# EAGLE library part M08_SMD (library custom-connectors)
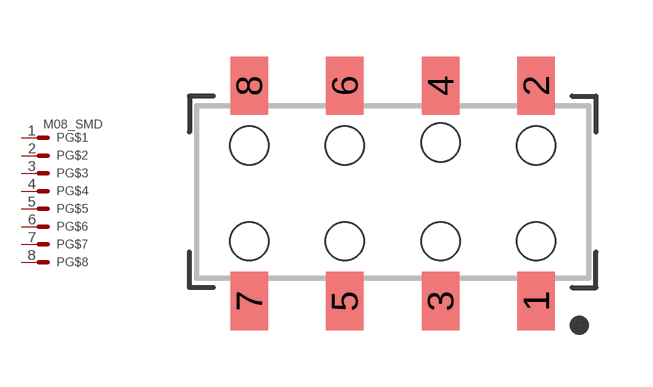
[diagram p22: symbol with the pads of 2X04_SMD_F_HEADER; footprint 2X04_SMD_F_HEADER]

Designator prefix P; gates G$1=MV G$2=M G$3=M G$4=M G$5=M G$6=M G$7=M G$8=M

## M08_SMD  [2X04_SMD_F_HEADER]
1  G$1:S  pas
2  G$2:S  pas
3  G$3:S  pas
4  G$4:S  pas
5  G$5:S  pas
6  G$6:S  pas
7  G$7:S  pas
8  G$8:S  pas

## Footprint 2X04_SMD_F_HEADER (pad centres in mm)
smd 0.991 x 1.549: 1 3.81,-3.016; 2 3.81,2.699; 3 1.27,-3.016; 4 1.27,2.699; 5 -1.27,-3.016; 6 -1.27,2.699; 7 -3.81,-3.016; 8 -3.81,2.699
hole 1.02 at -1.27,-1.429
hole 1.02 at 1.27,1.191
hole 1.02 at 1.27,-1.429
hole 1.02 at 3.81,1.111
hole 1.02 at 3.81,-1.429
hole 1.02 at -1.27,1.111
hole 1.02 at -3.81,-1.429
hole 1.02 at -3.81,1.111